# Altium footprint library LYz.PcbLib: 52 footprints (part 1 of 4)
Each footprint in its own frame and in the unit in brackets; x right, y up, seen from the top. Pads: shape width x height; smd on the part's side, far side on the other; paste and mask are expansions set on the pad; w line width, h text height; cw(c..) or ccw(c..) is an arc to the next point about the centre after c.
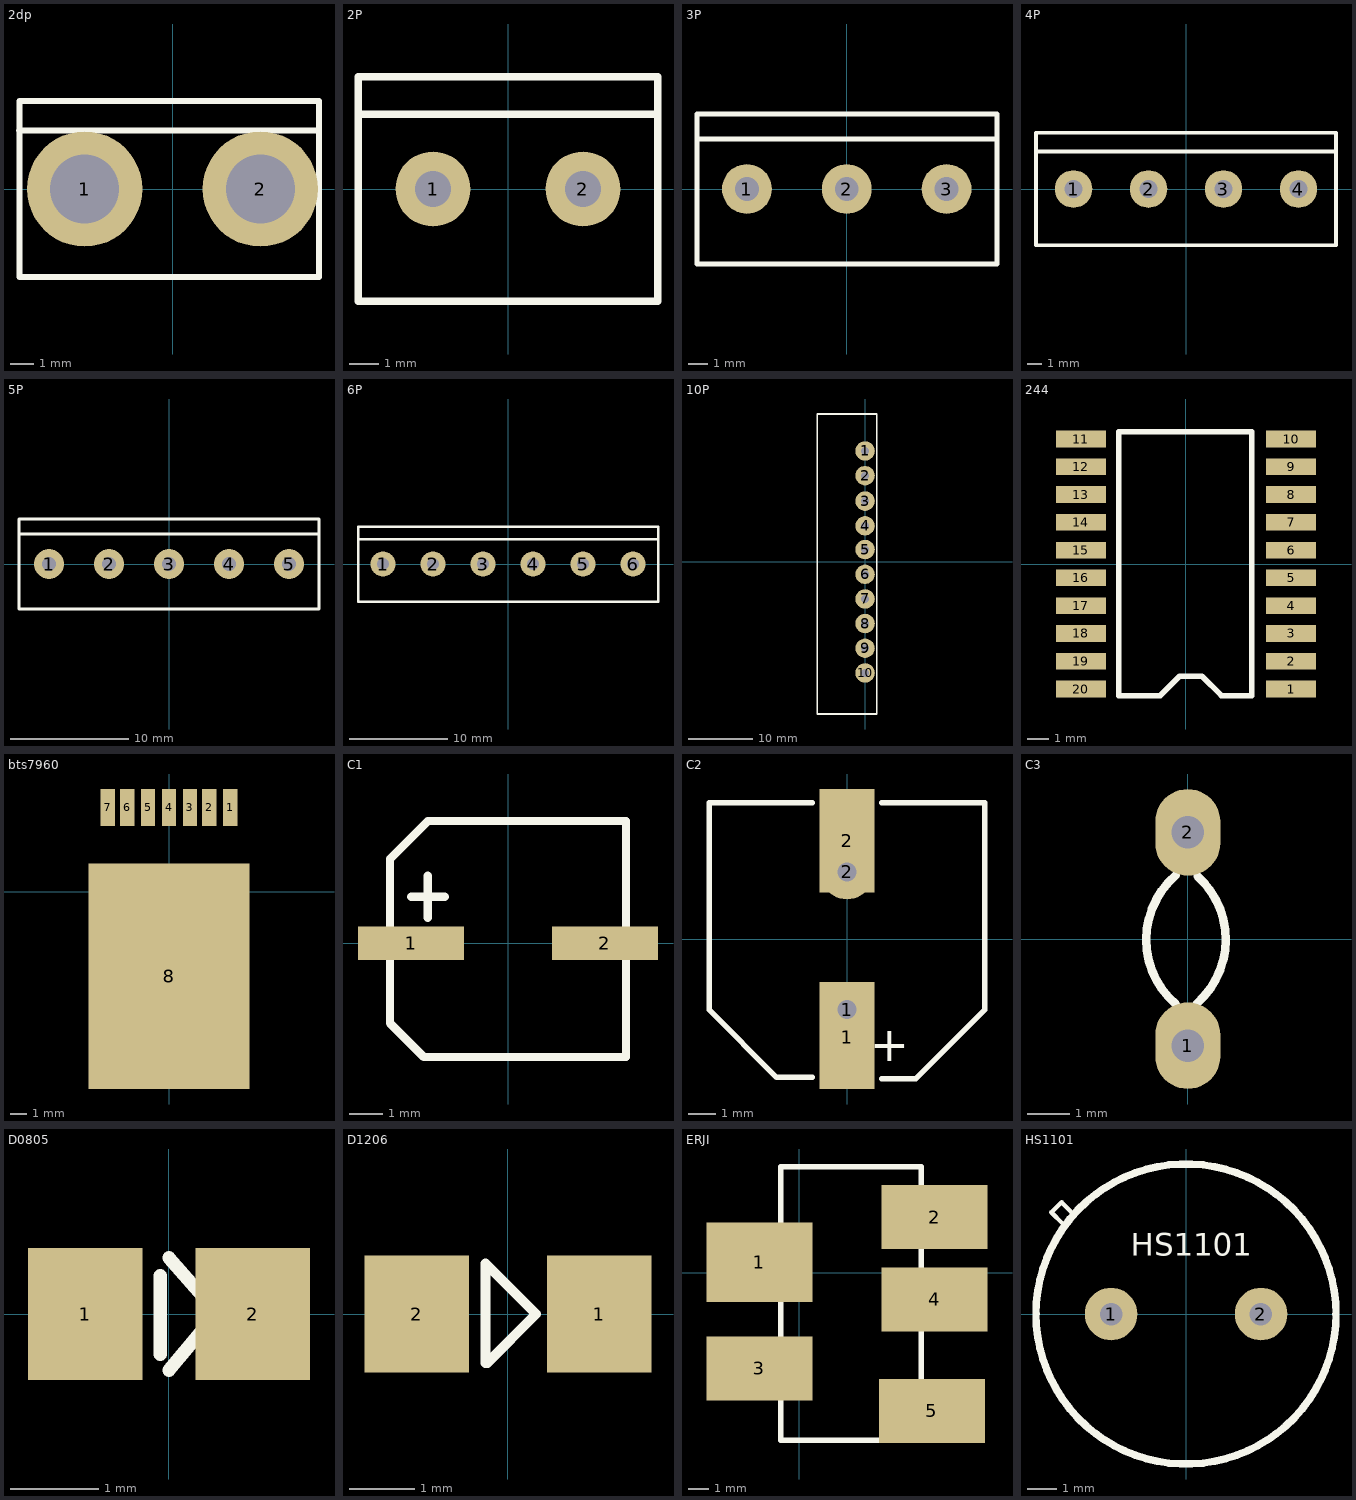
[diagram p0: the footprints below, top view; thin cyan lines are the x and y axes]

## 2dp [mm]
pads (2):
  round 5 hole 3: 1(-3.81,0) 2(3.81,0)
Top Overlay:
  lines w0.254: -6.655,2.54 6.35,2.54 ; -6.629,-3.81 -6.629,3.81 6.35,3.81 6.35,-3.81 -6.629,-3.81

## 2P [mil]
pads (2):
  round 100 hole 48: 1(-100,0) 2(100,0)
Top Overlay:
  lines w10: -200,100 200,100 ; -200,-150 200,-150 200,150 -200,150 -200,-150

## 3P [mil]
pads (3):
  round 100 hole 48: 1(-200,0) 2(0,0) 3(200,0)
Top Overlay:
  lines w10: -300,100 301,100 ; -300,-150 -300,150 301,150 301,-150 -300,-150

## 4P [mil]
pads (4):
  round 100 hole 48: 1(-300,0) 2(-100,0) 3(100,0) 4(300,0)
Top Overlay:
  lines w10: -400,100 400,100 ; -400,-150 -400,150 400,150 400,-150 -400,-150

## 5P [mil]
pads (5):
  round 100 hole 48: 1(-400,0) 2(-200,0) 3(0,0) 4(200,0) 5(400,0)
Top Overlay:
  lines w10: -500,100 500,100 ; -500,-150 -500,150 500,150 500,-150 -500,-150

## 6P [mil]
pads (6):
  round 100 hole 48: 1(-500,0) 2(-300,0) 3(-100,0) 4(100,0) 5(300,0) 6(500,0)
Top Overlay:
  lines w10: -600,100 600,100 ; -600,-150 600,-150 600,150 -600,150 -600,-150

## 10P [mm]
pads (10):
  round 3 hole 1.2: 1(0,17.145) 2(0,13.335) 3(0,9.398) 4(0,5.588) 5(0,1.905) 6(0,-1.905) 7(0,-5.715) 8(0,-9.525) 9(0,-13.335) 10(0,-17.145)
Top Overlay:
  lines w0.254: -7.366,-23.495 1.778,-23.495 1.778,22.86 -7.366,22.86 -7.366,-23.495

## 244 [mil]
pads (20):
  rect 90x30 smd: 1(189.37,-225) 2(189.37,-175) 3(189.37,-125) 4(189.37,-75) 5(189.37,-25) 6(189.37,25) 7(189.37,75) 8(189.37,125) 9(189.37,175) 10(189.37,225) 11(-189.37,225) 12(-189.37,175) 13(-189.37,125) 14(-189.37,75) 15(-189.37,25) 16(-189.37,-25) 17(-189.37,-75) 18(-189.37,-125) 19(-189.37,-175) 20(-189.37,-225)
Top Overlay:
  lines w10: -121.37,-237 -46.37,-237 -11.37,-202 28.63,-202 63.63,-237 118.63,-237 118.63,238 -121.37,238 -121.37,-237

## bts7960 [mil]
pads (8):
  rect 35x90 smd: 1(149.61,206.69) 2(98.43,206.69) 3(51.18,206.69) 4(0,206.69) 5(-51.18,206.69) 6(-102.36,206.69) 7(-149.61,206.69)
  rect 393.7x551.18 smd: 8(0,-206.69)

## C1 [mm]
pads (2):
  rect 3.2x1 smd: 1(-2.921,0) 2(2.921,0)
Top Overlay:
  lines w0.254: -2.921,1.397 -1.905,1.397 ; -2.413,0.762 -2.413,2.032 ; -3.556,-2.413 -3.556,2.54 -2.413,3.683 3.556,3.683 3.556,-3.429 -2.54,-3.429 -3.556,-2.413

## C2 [mil]
pads (4):
  rect 80x150 smd: 1(0,-142.5) 2(0,142.5)
  rect 80x80 hole 27.56: 1(0,-102.5)
  round 80 hole 27.56: 2(0,97.5)
Top Overlay:
  lines w7.87: -50,-200.5 -102,-200.5 -200,-102.5 -200,197.5 -50,197.5 ; 50,-202.5 100,-202.5 200,-102.5 200,194.56 ; 50,197.5 200,197.5
  text "+" at 90,-177.5 h50

## C3 [mil]
pads (2):
  oval 60x80 hole 30: 1(0,-98.43) 2(0,98.43)
Top Overlay:
  lines w7.87: -11.06,-60.23 cw(c40.41,-0.64) -11,59 ; 8.38,-59.56 ccw(c-43.74,-0.54) 8.97,57.96

## D0805 [mm]
pads (2):
  rect 1.3x1.5 smd: 1(-0.95,0) 2(0.95,0)
Top Overlay:
  lines w0.152: -0.102,-0.457 -0.102,0.432 ; 0,-0.635 0.381,-0.178 ; 0,0.635 0.381,0.203

## D1206 [mm]
pads (2):
  rect 1.6x1.8 smd: 1(1.4,0) 2(-1.4,0)
Top Overlay:
  lines w0.152: -0.343,-0.749 -0.343,0.775 0.432,0 -0.318,-0.749

## ERJI [mil]
pads (5):
  rect 200x150 smd: 1(-75,20)
  rect 200x120 smd: 2(255,105) 3(-75,-180) 4(255,-50) 5(250,-260)
Top Overlay:
  lines w10: -35,-315 215,-315 230,-315 230,-300 230,200 -35,200 -35,-315

## HS1101 [mil]
pads (2):
  round 70 hole 30: 1(-100,0) 2(100,0)
Top Overlay:
  circle w10: c0,0 r200
  lines w6: -179.5,135.5 -164,120 -159,120 ; -179,135 -179,136 -166,149 -150,133
  text "HS1101" at -74,78 h30